# Altium footprint library RH_LED_T1.PcbLib: 1 footprints
Each footprint in its own frame and in the unit in brackets; x right, y up, seen from the top. Pads: shape width x height; smd on the part's side, far side on the other; paste and mask are expansions set on the pad; w line width, h text height; cw(c..) or ccw(c..) is an arc to the next point about the centre after c.
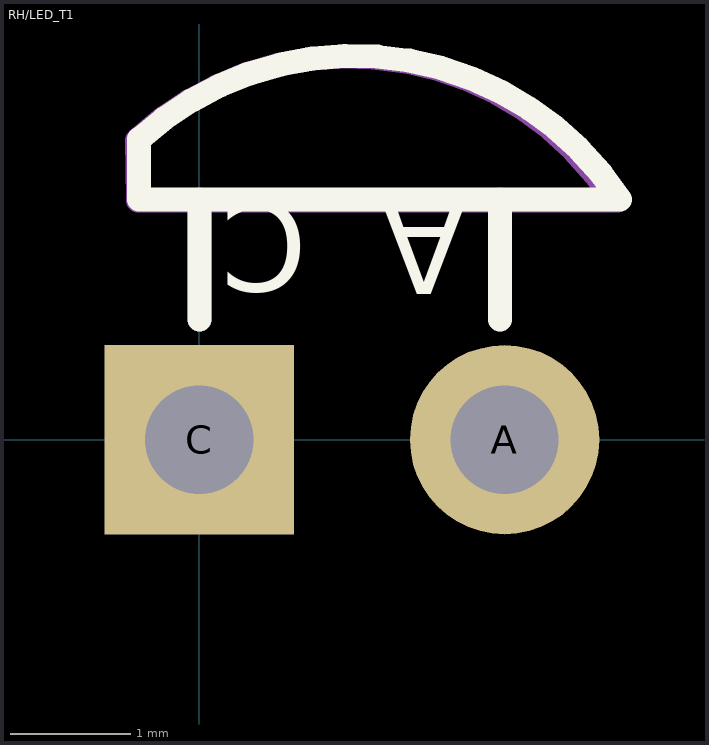
[diagram p0: the footprint, top view; thin cyan lines are the x and y axes]

## RH/LED_T1 [mil]
pads (2):
  round 62 hole 35.43: A(100,0)
  rect 62x62 / inner round 62 / far side rect 62x62 hole 35.43: C(0,0)
Top Overlay:
  lines w7.87: 0,39.37 0,78.73 ; 98.42,39.37 98.42,78.73 ; -19.68,78.73 -19.68,98.42 cw(c50.67,21.52) 137.78,78.73 -19.68,78.73
  text "A" at 87.39,77.15 h29.52
  text "C" at 35.43,77.96 h29.52
Mechanical 1:
  lines w7.87: -20.49,98.02 cw(c49.43,22.83) 135.81,78.33 ; -20.46,98 -20.07,79.13 ; -20.07,98 -20.07,78.33 137,78.33 ; 0,39.37 0,78.73 ; 98.42,39.37 98.42,78.73
3D body: height 287.4, standoff -118.11, extent -38.57,-55.1 138.6,295.3